# Altium schematic symbol library L1MC-RGB0028000MP0.SchLib: 1 symbol
Pins are listed as number, name and electrical type; pins without a type are passive.

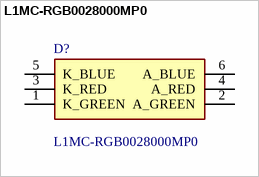
[diagram p0: symbol L1MC-RGB0028000MP0]

## L1MC-RGB0028000MP0
designator D?
LED Lighting Color LUXEON 3528 RGB Red, Green, Blue (RGB) 622nm Red, 525nm Green, 470nm Blue 6-PLCC; Manufacturer_Name: Lumileds; Geometry.Height: 1.85mm; Mouser Part Number: 997-L1MCRGB00280MP; Mouser Price/Stock: https://www.mouser.co.uk/ProductDetail/Lumileds/L1MC-RGB0028000MP0?qs=Znm5pLBrcAJSGF05jr80lQ%3D%3D; Manufacturer_Part_Number: L1MC-RGB0028000MP0; Datasheet Link: https://lumileds.com/wp-content/uploads/2022/03/DS388-luxeon-3528-rgb-datasheet.pdf
footprint L1MCRGB0028000MP0
pins: 1 K_GREEN, 2 A_GREEN, 3 K_RED, 4 A_RED, 5 K_BLUE, 6 A_BLUE